# Altium integrated library C2012X5R1A226K125AB.IntLib: 1 symbol
Pins are listed as number, name and electrical type; pins without a type are passive.

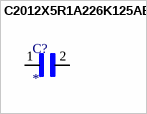
[diagram p0: symbol C2012X5R1A226K125AB]

## C2012X5R1A226K125AB
designator C?
22ÂµF Â±10% 10V Ceramic Capacitor X5R 0805 (2012 Metric); MP: C2012X5R1A226K125AB; MF: TDK; Purchase-URL: https://pricing.snapeda.com/search/part/C2012X5R1A226K125AB/?ref=eda; Availability: In Stock; SnapEDA_Link: https://www.snapeda.com/parts/C2012X5R1A226K125AB/TDK-Lambda+Americas+Inc/view-part/?ref=snap; Package: 2012 TDK; Value: *; Check_prices: https://www.snapeda.com/parts/C2012X5R1A226K125AB/TDK-Lambda+Americas+Inc/view-part/?ref=eda; Price: None
footprint CAPC2012X145N
pins: 1, 2